# EAGLE library part LM2757TM/NOPB (library LM2757TM)
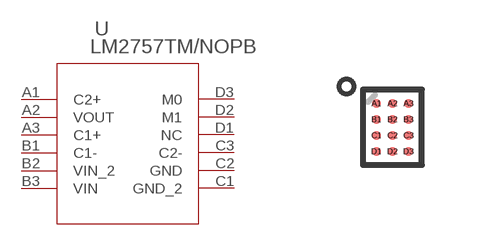
[diagram p0: symbol with the pads of TMD12AAA; footprint TMD12AAA]

Designator prefix -

## LM2757TM/NOPB (MANUFACTURER_PART_NUMBER: LM2757TMNOPB; VENDOR: National Semiconductor)  [TMD12AAA]
A1  C2+  pas
A2  VOUT  pwr
A3  C1+  pas
B1  C1-  pas
B2  VIN_2  pwr
B3  VIN  pwr
C1  GND_2  pwr
C2  GND  pwr
C3  C2-  pas
D1  NC  nc
D2  M1  pas
D3  M0  pas

## Footprint TMD12AAA (pad centres in mm)
smd 0.229 x 0.229: A1 -0.4,0.6; A2 0,0.6; A3 0.4,0.6; B1 -0.4,0.2; B2 0,0.2; B3 0.4,0.2; C1 -0.4,-0.2; C2 0,-0.2; C3 0.4,-0.2; D1 -0.4,-0.6; D2 0,-0.6; D3 0.4,-0.6